# Altium schematic symbol library USB6501.SCHLIB: 1 symbol
Pins are listed as number, name and electrical type; pins without a type are passive.

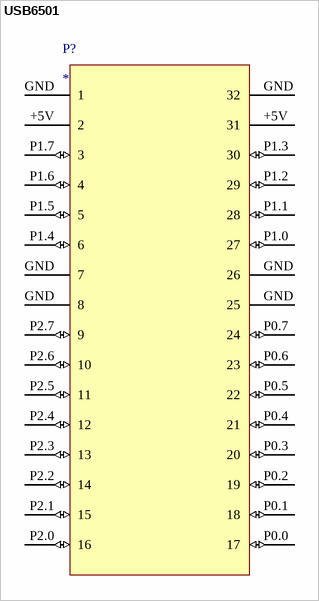
[diagram p0: symbol USB6501]

## USB6501
designator P?
pins: +5V 2 (power), +5V 31 (power), GND 1 (power), GND 7 (power), GND 8 (power), GND 25 (power), GND 26 (power), GND 32 (power), P0.0 17 (io), P0.1 18 (io), P0.2 19 (io), P0.3 20 (io), P0.4 21 (io), P0.5 22 (io), P0.6 23 (io), P0.7 24 (io), P1.0 27 (io), P1.1 28 (io), P1.2 29 (io), P1.3 30 (io), P1.4 6 (io), P1.5 5 (io), P1.6 4 (io), P1.7 3 (io), P2.0 16 (io), P2.1 15 (io), P2.2 14 (io), P2.3 13 (io), P2.4 12 (io), P2.5 11 (io), P2.6 10 (io), P2.7 9 (io)